# Altium footprint library TAG_CONNECT_TC2030.PcbLib: 1 footprints
Each footprint in its own frame and in the unit in brackets; x right, y up, seen from the top. Pads: shape width x height; smd on the part's side, far side on the other; paste and mask are expansions set on the pad; w line width, h text height; cw(c..) or ccw(c..) is an arc to the next point about the centre after c.
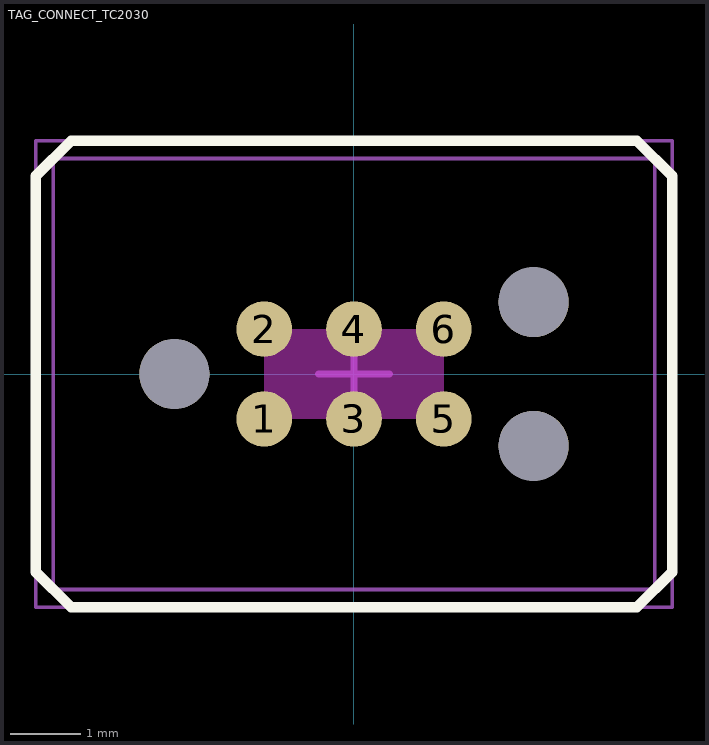
[diagram p0: the footprint, top view; thin cyan lines are the x and y axes]

## TAG_CONNECT_TC2030 [mil] "TC2030-IDC Datasheet: https://mm.digikey.com/Volume0/opasdata/d220001/medias/docus/2084/TC2030-IDC_RevB.pdf"
pads (14):
  round 31 smd paste-99999 mask+4: 1(-50,-25) 2(-50,25) 2(-50,25) 3(0,-25) 3(0,-25) 4(0,25) 4(0,25) 5(50,-25) 5(50,-25) 6(50,25) 6(50,25)
  round 39 hole 39 unplated: ""(-100,0) ""(100,-40) ""(100,40)
Top Overlay:
  lines w5.91: -177.17,-110.24 -177.17,110.24 -157.48,129.92 157.48,129.92 177.17,110.24 177.17,-110.24 157.48,-129.92 -157.48,-129.92 -177.17,-110.24
Keep-Out Layer:
  rectangle: -50,-25 50,25
Top Assembly:
  lines w1.97: -167.5,-120 167.5,-120 167.5,120 -167.5,120 -167.5,-120
  text ".designator" at -98.39,-6.56 h19.68
Top Courtyard:
  lines w1.97: -177.17,-129.92 177.17,-129.92 177.17,129.92 -177.17,129.92 -177.17,-129.92
  lines w3.94: -19.68,0 19.68,0 ; 0,-19.68 0,19.68